# Altium integrated library NSC MiscPower.IntLib: 742 symbols (part 1 of 19)
Pins are listed as number, name and electrical type; pins without a type are passive.

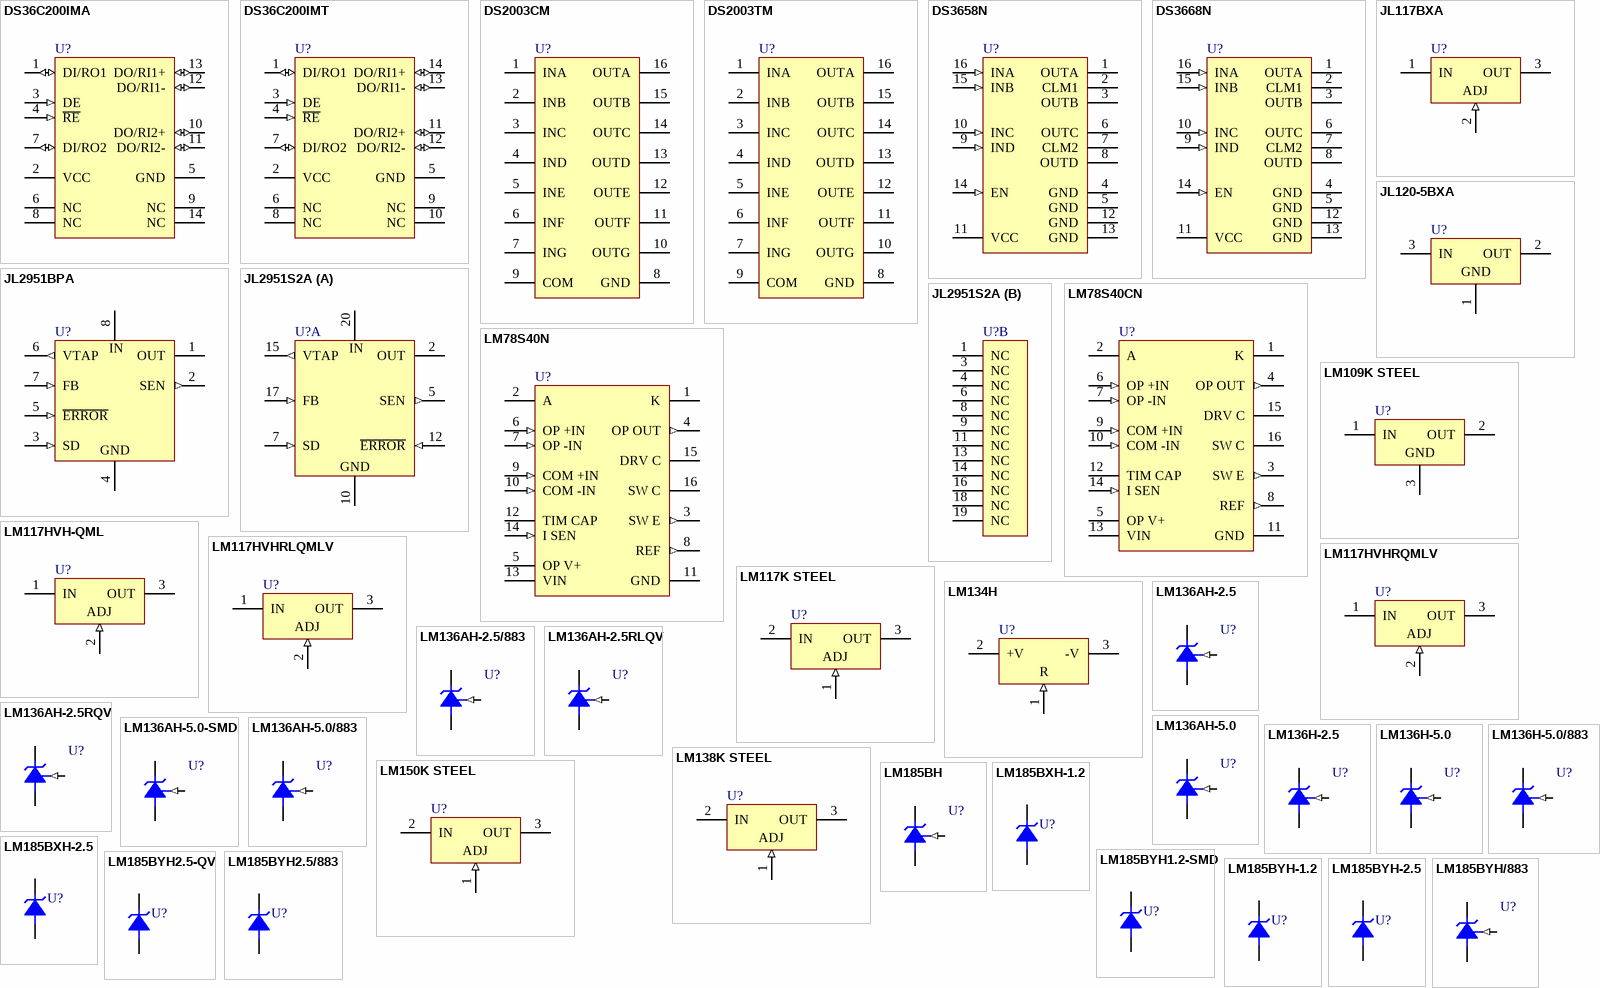
[diagram p0: symbols DS36C200IMA to LM185BYH/883]

## DS36C200IMA
designator U?
Dual High Speed Bi-Directional Differential Transceiver; PartNumber: DS36C200IMA; Manufacturer: National Semiconductor; CompType: MiscPower; PackageTopMarking: NSUZXYTT*DS36C200*IMA; FirstPublished: 4-Dec-2008; DatasheetVersion: Feb-2005; PackageVersion: revJ, Jan-1996; PackageReference: M14A; Publisher: Altium Limited; PackageDescription: Molded Package S.O., .150in Wide, 14 Lead; RoHS: Y; PinCount: 14; DigiKeyPartNumber: DS36C200IMA-ND; Code_JEDEC: MS-012AB; Code_IPC: SOIC127P600-14; ComponentLink1Description: DS36C200I Datasheet; ComponentLink1URL: http://www.national.com/ds/DS/DS36C200I.pdf; ComponentLink2Description: DS36C200I Web Page; ComponentLink2URL: http://www.national.com/pf/DS/DS36C200I.html; ComponentLink3Description: M14A Package Page; ComponentLink3URL: http://www.national.com/packaging/folders/m14a.html
footprint M14A_N (SOIC, 14-Leads, Body 8.6x3.9mm, Pitch 1.27mm, IPC Medium Density)
footprint M14A_L (SOIC, 14-Leads, Body 8.6x3.9mm, Pitch 1.27mm, IPC High Density)
footprint M14A_M (SOIC, 14-Leads, Body 8.6x3.9mm, Pitch 1.27mm, IPC Low Density)
pins: 1 DI/RO1 (io), 2 VCC (power), 3 DE (in), 4 ~{RE} (in), 5 GND (power), 6 NC, 7 DI/RO2 (io), 8 NC, 9 NC, 10 DO/RI2+ (io), 11 DO/RI2- (io), 12 DO/RI1- (io), 13 DO/RI1+ (io), 14 NC

## DS36C200IMT
designator U?
Dual High Speed Bi-Directional Differential Transceiver; PartNumber: DS36C200IMT; Manufacturer: National Semiconductor; CompType: MiscPower; PackageTopMarking: NSZXYTT*DS36C2*00IM; FirstPublished: 4-Dec-2008; DatasheetVersion: Feb-2005; PackageVersion: revD, Jun-2003; PackageReference: MTC14; Publisher: Altium Limited; PackageDescription: Molded TSSOP, JEDEC, 5 x 4.4 x 0.9mm Body, 14 Lead, 0.65mm Pitch; RoHS: Y; PinCount: 14; DigiKeyPartNumber: DS36C200IMT-ND; Code_JEDEC: MO-153-AB-1; ComponentLink1Description: DS36C200I Datasheet; ComponentLink1URL: http://www.national.com/ds/DS/DS36C200I.pdf; ComponentLink2Description: DS36C200I Web Page; ComponentLink2URL: http://www.national.com/pf/DS/DS36C200I.html; ComponentLink3Description: MTC14 Package Page; ComponentLink3URL: http://www.national.com/packaging/folders/mtc14.html
footprint MTC14_N (TSOP, 14-Leads, Body 5x4.4mm, Pitch 0.65mm, IPC Medium Density)
footprint MTC14_L (TSOP, 14-Leads, Body 5x4.4mm, Pitch 0.65mm, IPC High Density)
footprint MTC14_M (TSOP, 14-Leads, Body 5x4.4mm, Pitch 0.65mm, IPC Low Density)
pins: 1 DI/RO1 (io), 2 VCC (power), 3 DE (in), 4 ~{RE} (in), 5 GND (power), 6 NC, 7 DI/RO2 (io), 8 NC, 9 NC, 10 NC, 11 DO/RI2+ (io), 12 DO/RI2- (io), 13 DO/RI1- (io), 14 DO/RI1+ (io)

## DS2003CM
designator U?
High Current/Voltage Darlington Driver; PartNumber: DS2003CM; Manufacturer: National Semiconductor; CompType: MiscPower; PackageTopMarking: NSUZXYTT*DS2003CM; PowerWise: N; FirstPublished: 4-Dec-2008; DatasheetVersion: Mar-2005; PackageVersion: revJ, Aug-1995; PackageReference: M16A; Publisher: Altium Limited; PackageDescription: Molded Package, SO, .150in Wide, 16 Lead; RoHS: O; PinCount: 16; DigiKeyPartNumber: DS2003CM-ND; Code_JEDEC: MS-012-AC; Code_IPC: SOIC127P600-16; ComponentLink1Description: DS2003 Datasheet; ComponentLink1URL: http://www.national.com/ds/DS/DS2003.pdf; ComponentLink2Description: DS2003 Web Page; ComponentLink2URL: http://www.national.com/pf/DS/DS2003.html; ComponentLink3Description: M16A Package Page; ComponentLink3URL: http://www.national.com/packaging/folders/m16a.html
footprint M16A_N (SOIC, 16-Leads, Body 9.9x3.9mm, Pitch 1.27mm, IPC Medium Density)
footprint M16A_L (SOIC, 16-Leads, Body 9.9x3.9mm, Pitch 1.27mm, IPC High Density)
footprint M16A_M (SOIC, 16-Leads, Body 9.9x3.9mm, Pitch 1.27mm, IPC Low Density)
pins: 1 INA, 2 INB, 3 INC, 4 IND, 5 INE, 6 INF, 7 ING, 8 GND (power), 9 COM, 10 OUTG, 11 OUTF, 12 OUTE, 13 OUTD, 14 OUTC, 15 OUTB, 16 OUTA

## DS2003TM
designator U?
High Current/Voltage Darlington Driver; PartNumber: DS2003TM; Manufacturer: National Semiconductor; CompType: MiscPower; PackageTopMarking: NSUZXYTT*DS2003TM; PowerWise: N; FirstPublished: 4-Dec-2008; DatasheetVersion: Mar-2005; PackageVersion: revJ, Aug-1995; PackageReference: M16A; Publisher: Altium Limited; PackageDescription: Molded Package, SO, .150in Wide, 16 Lead; RoHS: O; PinCount: 16; DigiKeyPartNumber: DS2003TM-ND; Code_JEDEC: MS-012-AC; Code_IPC: SOIC127P600-16; ComponentLink1Description: DS2003 Datasheet; ComponentLink1URL: http://www.national.com/ds/DS/DS2003.pdf; ComponentLink2Description: DS2003 Web Page; ComponentLink2URL: http://www.national.com/pf/DS/DS2003.html; ComponentLink3Description: M16A Package Page; ComponentLink3URL: http://www.national.com/packaging/folders/m16a.html
footprint M16A_N (SOIC, 16-Leads, Body 9.9x3.9mm, Pitch 1.27mm, IPC Medium Density)
footprint M16A_L (SOIC, 16-Leads, Body 9.9x3.9mm, Pitch 1.27mm, IPC High Density)
footprint M16A_M (SOIC, 16-Leads, Body 9.9x3.9mm, Pitch 1.27mm, IPC Low Density)
pins: 1 INA, 2 INB, 3 INC, 4 IND, 5 INE, 6 INF, 7 ING, 8 GND (power), 9 COM, 10 OUTG, 11 OUTF, 12 OUTE, 13 OUTD, 14 OUTC, 15 OUTB, 16 OUTA

## DS3658N
designator U?
Quad High Current Peripheral Driver; PartNumber: DS3658N; Manufacturer: National Semiconductor; CompType: MiscPower; PackageTopMarking: NSUZXYYTT*DS3658N; PowerWise: N; FirstPublished: 4-Dec-2008; DatasheetVersion: Nov-2001; PackageVersion: revG, May-2006; PackageReference: N16E; Publisher: Altium Limited; PackageDescription: MDIP, .750 x .250 x .130in, 16 Lead, .100in Pitch; RoHS: O; PinCount: 16; DigiKeyPartNumber: DS3658N-ND; Code_JEDEC: MS-001-BB; ComponentLink1Description: DS3658 Datasheet; ComponentLink1URL: http://www.national.com/ds/DS/DS3658.pdf; ComponentLink2Description: DS3658 Web Page; ComponentLink2URL: http://www.national.com/pf/DS/DS3658.html; ComponentLink3Description: N16E Package Page; ComponentLink3URL: http://www.national.com/packaging/folders/n16e.html
footprint N16E (DIP, 16-Leads, Row Spacing 7.62mm, Pitch 2.54mm, Body 19.3x6.35mm)
pins: 1 OUTA (oc), 2 CLM1, 3 OUTB (oc), 4 GND (power), 5 GND (power), 6 OUTC (oc), 7 CLM2, 8 OUTD (oc), 9 IND (in), 10 INC (in), 11 VCC (power), 12 GND (power), 13 GND (power), 14 EN (in), 15 INB (in), 16 INA (in)

## DS3668N
designator U?
Quad Fault Protected Peripheral Driver; PartNumber: DS3668N; Manufacturer: National Semiconductor; CompType: MiscPower; PackageTopMarking: NSUZXYYTT*DS3668N; PowerWise: N; FirstPublished: 4-Dec-2008; DatasheetVersion: Nov-2001; PackageVersion: revG, May-2006; PackageReference: N16E; Publisher: Altium Limited; PackageDescription: MDIP, .750 x .250 x .130in, 16 Lead, .100in Pitch; RoHS: O; PinCount: 16; DigiKeyPartNumber: DS3668N-ND; Code_JEDEC: MS-001-BB; ComponentLink1Description: DS3668 Datasheet; ComponentLink1URL: http://www.national.com/ds/DS/DS3668.pdf; ComponentLink2Description: DS3668 Web Page; ComponentLink2URL: http://www.national.com/pf/DS/DS3668.html; ComponentLink3Description: N16E Package Page; ComponentLink3URL: http://www.national.com/packaging/folders/n16e.html
footprint N16E (DIP, 16-Leads, Row Spacing 7.62mm, Pitch 2.54mm, Body 19.3x6.35mm)
pins: 1 OUTA (oc), 2 CLM1, 3 OUTB (oc), 4 GND (power), 5 GND (power), 6 OUTC (oc), 7 CLM2, 8 OUTD (oc), 9 IND (in), 10 INC (in), 11 VCC (power), 12 GND (power), 13 GND (power), 14 EN (in), 15 INB (in), 16 INA (in)

## JL117BXA
designator U?
3-Terminal Adjustable Regulator; PartNumber: JL117BXA; Manufacturer: National Semiconductor; CompType: MiscPower; PackageTopMarking: NS ZSSXXYYA 27014 Q*JM38510/11703BXA; PowerWise: N; FirstPublished: 4-Dec-2008; DatasheetVersion: Apr-2007; PackageVersion: revD, Feb-1995; PackageReference: H03A; Publisher: Altium Limited; PackageDescription: Metal Can, TO-39, 3 Lead, .200in Dia, P.C.; RoHS: N; PinCount: 3; Code_JEDEC: TO-39; ComponentLink1Description: LM117 Datasheet; ComponentLink1URL: http://www.national.com/ds/LM/LM117.pdf; ComponentLink2Description: LM117 Web Page; ComponentLink2URL: http://www.national.com/pf/LM/LM117.html; ComponentLink3Description: H03A Package Page; ComponentLink3URL: http://www.national.com/packaging/folders/h03a.html
footprint H03A (Can; 3 Leads; Pin Circle Dia. 5.08 mm; Lead Dia. 0.48 mm (max))
pins: 1 IN (power), 2 ADJ (in), 3 OUT (power)

## JL120-5BXA
designator U?
Series 3-Terminal Negative Regulators; PartNumber: JL120-5BXA; Manufacturer: National Semiconductor; CompType: MiscPower; PackageTopMarking: NS ZSSXXYYA 27014 Q*JM38510/11501BXA; FirstPublished: 4-Dec-2008; DatasheetVersion: Nov-2007; PackageVersion: revD, Feb-1995; PackageReference: H03A; Publisher: Altium Limited; PackageDescription: Metal Can, TO-39, 3 Lead, .200in Dia, P.C.; RoHS: N; PinCount: 3; Code_JEDEC: TO-39; ComponentLink1Description: LM120 Datasheet; ComponentLink1URL: http://www.national.com/ds/LM/LM120.pdf; ComponentLink2Description: LM120 Web Page; ComponentLink2URL: http://www.national.com/pf/LM/LM120.html; ComponentLink3Description: H03A Package Page; ComponentLink3URL: http://www.national.com/packaging/folders/h03a.html
footprint H03A (Can; 3 Leads; Pin Circle Dia. 5.08 mm; Lead Dia. 0.48 mm (max))
pins: 1 GND (power), 2 OUT (power), 3 IN (power)

## JL2951BPA
designator U?
Adjustable Micropower Voltage Regulator; PartNumber: JL2951BPA; Manufacturer: National Semiconductor; CompType: MiscPower; PackageTopMarking: NS 5962-*3870501BPA*27014 Q*ZSSXXYYA; PowerWise: N; FirstPublished: 4-Dec-2008; DatasheetVersion: May-2005; PackageVersion: revM, Jul-2002; PackageReference: J08A; Publisher: Altium Limited; PackageDescription: Cerdip, .400 x .310in Body, 8 Lead, .300in Centers, .100in Pitch; RoHS: N; PinCount: 8; ComponentLink1Description: LP2951 Datasheet; ComponentLink1URL: http://www.national.com/ds/LP/LP2951.pdf; ComponentLink2Description: LP2951 Web Page; ComponentLink2URL: http://www.national.com/pf/LP/LP2951.html; ComponentLink3Description: J08A Package Page; ComponentLink3URL: http://www.national.com/packaging/folders/j08a.html
footprint J08A (DIP, 8-Leads, Row Spacing 7.62mm, Pitch 2.54mm, Body 9.78x6.73mm)
pins: 1 OUT (power), 2 SEN (out), 3 SD (in), 4 GND (power), 5 ~{ERROR} (in), 6 VTAP (out), 7 FB (in), 8 IN (power)

## JL2951S2A
designator U?
Adjustable Micropower Voltage Regulator; PartNumber: JL2951S2A; Manufacturer: National Semiconductor; CompType: MiscPower; PackageTopMarking: NSZSSXXYYA*27014 Q*5962-*3870501S2A; FirstPublished: 4-Dec-2008; DatasheetVersion: Jan-1997; PackageVersion: revF, May-2004; PackageReference: E20A; Publisher: Altium Limited; PackageDescription: Leadless Chip Carrier, Type C, 20 Terminal; RoHS: N; PinCount: 20; Code_JEDEC: MS-004-CB; ComponentLink1Description: LP2951 Datasheet; ComponentLink1URL: http://www.national.com/mds/LP/MJLP2951-X.pdf; ComponentLink2Description: LP2951 Web Page; ComponentLink2URL: http://www.national.com/pf/LP/LP2951.html; ComponentLink3Description: E20A Package Page; ComponentLink3URL: http://www.national.com/packaging/folders/e20a.html
footprint E20A_N (Leadless Chip Carrier, 20-Leads, Body 8.9x8.9mm, Pitch 1.27mm, IPC Medium Density)
footprint E20A_L (Leadless Chip Carrier, 20-Leads, Body 8.9x8.9mm, Pitch 1.27mm, IPC High Density)
footprint E20A_M (Leadless Chip Carrier, 20-Leads, Body 8.9x8.9mm, Pitch 1.27mm, IPC Low Density)
part A pins: 2 OUT (power), 5 SEN (out), 7 SD (in), 10 GND (power), 12 ~{ERROR} (in), 15 VTAP (out), 17 FB (in), 20 IN (power)
part B pins: 1 NC, 3 NC, 4 NC, 6 NC, 8 NC, 9 NC, 11 NC, 13 NC, 14 NC, 16 NC, 18 NC, 19 NC

## LM78S40CN
designator U?
Universal Switching Regulator Subsystem; PartNumber: LM78S40CN; Manufacturer: National Semiconductor; CompType: MiscPower; PackageTopMarking: NSUZXYYTT*LM78S40CN; PowerWise: N; FirstPublished: 4-Dec-2008; DatasheetVersion: Apr-1998; PackageVersion: revG, May-2006; PackageReference: N16E; Publisher: Altium Limited; PackageDescription: MDIP, .750 x .250 x .130in, 16 Lead, .100in Pitch; RoHS: O; PinCount: 16; DigiKeyPartNumber: LM78S40CN-ND; Code_JEDEC: MS-001-BB; ComponentLink1Description: LM78S40 Datasheet; ComponentLink1URL: http://www.national.com/ds/LM/LM78S40.pdf; ComponentLink2Description: LM78S40 Web Page; ComponentLink2URL: http://www.national.com/pf/LM/LM78S40.html; ComponentLink3Description: N16E Package Page; ComponentLink3URL: http://www.national.com/packaging/folders/n16e.html
footprint N16E (DIP, 16-Leads, Row Spacing 7.62mm, Pitch 2.54mm, Body 19.3x6.35mm)
pins: 1 K, 2 A, 3 SW E (out), 4 OP OUT (out), 5 OP V+ (power), 6 OP +IN (in), 7 OP -IN (in), 8 REF (out), 9 COM +IN (in), 10 COM -IN (in), 11 GND (power), 12 TIM CAP, 13 VIN (power), 14 I SEN (in), 15 DRV C (oc), 16 SW C (oc)

## LM78S40N
designator U?
Universal Switching Regulator Subsystem; PartNumber: LM78S40N; Manufacturer: National Semiconductor; CompType: MiscPower; PackageTopMarking: NSUZXYYTT*LM78S40N; PowerWise: N; FirstPublished: 4-Dec-2008; DatasheetVersion: Apr-1998; PackageVersion: revG, May-2006; PackageReference: N16E; Publisher: Altium Limited; PackageDescription: MDIP, .750 x .250 x .130in, 16 Lead, .100in Pitch; RoHS: O; PinCount: 16; DigiKeyPartNumber: LM78S40N-ND; Code_JEDEC: MS-001-BB; ComponentLink1Description: LM78S40 Datasheet; ComponentLink1URL: http://www.national.com/ds/LM/LM78S40.pdf; ComponentLink2Description: LM78S40 Web Page; ComponentLink2URL: http://www.national.com/pf/LM/LM78S40.html; ComponentLink3Description: N16E Package Page; ComponentLink3URL: http://www.national.com/packaging/folders/n16e.html
footprint N16E (DIP, 16-Leads, Row Spacing 7.62mm, Pitch 2.54mm, Body 19.3x6.35mm)
pins: 1 K, 2 A, 3 SW E (out), 4 OP OUT (out), 5 OP V+ (power), 6 OP +IN (in), 7 OP -IN (in), 8 REF (out), 9 COM +IN (in), 10 COM -IN (in), 11 GND (power), 12 TIM CAP, 13 VIN (power), 14 I SEN (in), 15 DRV C (oc), 16 SW C (oc)

## LM109K STEEL
designator U?
5-Volt Regulator; PartNumber: LM109K STEEL; Manufacturer: National Semiconductor; CompType: MiscPower; PackageTopMarking: NS*ZXYTTE#*LM109K*STEELP+; PowerWise: N; FirstPublished: 4-Dec-2008; DatasheetVersion: Apr-1998; PackageVersion: revG, Oct-1991; PackageReference: K02A; Publisher: Altium Limited; PackageDescription: Metal Can (KA) TO-3, 2 Lead; RoHS: O; PinCount: 2; ComponentLink1Description: LM109 Datasheet; ComponentLink1URL: http://www.national.com/ds/LM/LM109.pdf; ComponentLink2Description: LM109 Web Page; ComponentLink2URL: http://www.national.com/pf/LM/LM109.html; ComponentLink3Description: K02A Package Page; ComponentLink3URL: http://www.national.com/packaging/folders/k02a.html
footprint K02A (Oval Flange Mount with (2) Offset Leads; Pin Spacing 10.93 mm; Lead Dia. 1.09 mm (max))
pins: 1 IN (power), 2 OUT (power), 3 GND (power)

## LM117HVH-QML
designator U?
3-Terminal Adjustable Regulator; PartNumber: LM117HVH-QML; Manufacturer: National Semiconductor; CompType: MiscPower; PackageTopMarking: NSZSSXXYYA 5962-07229*01QXA LM117HVH-QML Q; PowerWise: N; FirstPublished: 4-Dec-2008; DatasheetVersion: Apr-2000; PackageVersion: revD, Feb-1995; PackageReference: H03A; Publisher: Altium Limited; PackageDescription: Metal Can, TO-39, 3 Lead, .200in Dia, P.C.; RoHS: N; PinCount: 3; Code_JEDEC: TO-39; ComponentLink1Description: LM117HV Datasheet; ComponentLink1URL: http://www.national.com/ds/LM/LM117HV.pdf; ComponentLink2Description: LM117HV Web Page; ComponentLink2URL: http://www.national.com/pf/LM/LM117HV.html; ComponentLink3Description: H03A Package Page; ComponentLink3URL: http://www.national.com/packaging/folders/h03a.html
footprint H03A (Can; 3 Leads; Pin Circle Dia. 5.08 mm; Lead Dia. 0.48 mm (max))
pins: 1 IN (power), 2 ADJ (in), 3 OUT (power)

## LM117HVHRLQMLV
designator U?
3-Terminal Adjustable Regulator; PartNumber: LM117HVHRLQMLV; Manufacturer: National Semiconductor; CompType: MiscPower; PackageTopMarking: NSZSSXXYYA 5962R07229*61VXA LM117HVHRLQV Q; PowerWise: N; FirstPublished: 4-Dec-2008; DatasheetVersion: Apr-2000; PackageVersion: revD, Feb-1995; PackageReference: H03A; Publisher: Altium Limited; PackageDescription: Metal Can, TO-39, 3 Lead, .200in Dia, P.C.; RoHS: N; PinCount: 3; Code_JEDEC: TO-39; ComponentLink1Description: LM117HV Datasheet; ComponentLink1URL: http://www.national.com/ds/LM/LM117HV.pdf; ComponentLink2Description: LM117HV Web Page; ComponentLink2URL: http://www.national.com/pf/LM/LM117HV.html; ComponentLink3Description: H03A Package Page; ComponentLink3URL: http://www.national.com/packaging/folders/h03a.html
footprint H03A (Can; 3 Leads; Pin Circle Dia. 5.08 mm; Lead Dia. 0.48 mm (max))
pins: 1 IN (power), 2 ADJ (in), 3 OUT (power)

## LM117HVHRQMLV
designator U?
3-Terminal Adjustable Regulator; PartNumber: LM117HVHRQMLV; Manufacturer: National Semiconductor; CompType: MiscPower; PackageTopMarking: NSZSSXXYYA 5962R07229*01VXA LM117HVHRQV Q; PowerWise: N; FirstPublished: 4-Dec-2008; DatasheetVersion: Apr-2000; PackageVersion: revD, Feb-1995; PackageReference: H03A; Publisher: Altium Limited; PackageDescription: Metal Can, TO-39, 3 Lead, .200in Dia, P.C.; RoHS: N; PinCount: 3; Code_JEDEC: TO-39; ComponentLink1Description: LM117HV Datasheet; ComponentLink1URL: http://www.national.com/ds/LM/LM117HV.pdf; ComponentLink2Description: LM117HV Web Page; ComponentLink2URL: http://www.national.com/pf/LM/LM117HV.html; ComponentLink3Description: H03A Package Page; ComponentLink3URL: http://www.national.com/packaging/folders/h03a.html
footprint H03A (Can; 3 Leads; Pin Circle Dia. 5.08 mm; Lead Dia. 0.48 mm (max))
pins: 1 IN (power), 2 ADJ (in), 3 OUT (power)

## LM117K STEEL
designator U?
3-Terminal Adjustable Regulator; PartNumber: LM117K STEEL; Manufacturer: National Semiconductor; CompType: MiscPower; PackageTopMarking: NS*ZXYTTE#*LM117K*STEELP+; PowerWise: N; FirstPublished: 4-Dec-2008; DatasheetVersion: Apr-2007; PackageVersion: revG, Oct-1991; PackageReference: K02A; Publisher: Altium Limited; PackageDescription: Metal Can (KA) TO-3, 2 Lead; RoHS: O; PinCount: 2; DigiKeyPartNumber: LM117K STEEL-ND; ComponentLink1Description: LM117 Datasheet; ComponentLink1URL: http://www.national.com/ds/LM/LM117.pdf; ComponentLink2Description: LM117 Web Page; ComponentLink2URL: http://www.national.com/pf/LM/LM117.html; ComponentLink3Description: K02A Package Page; ComponentLink3URL: http://www.national.com/packaging/folders/k02a.html
footprint K02A (Oval Flange Mount with (2) Offset Leads; Pin Spacing 10.93 mm; Lead Dia. 1.09 mm (max))
pins: 1 ADJ (in), 2 IN (power), 3 OUT (power)

## LM134H
designator U?
3-Terminal Adjustable Current Source; PartNumber: LM134H; Manufacturer: National Semiconductor; CompType: MiscPower; PackageTopMarking: NSZXYTTE# M134H; PowerWise: N; FirstPublished: 4-Dec-2008; DatasheetVersion: Mar-2005; PackageVersion: revF, Apr-2002; PackageReference: H03H; Publisher: Altium Limited; PackageDescription: Metal Can, TO-46, 3 Lead, .100in Dia, P.C.; RoHS: O; PinCount: 3; Code_JEDEC: TO-46; ComponentLink1Description: LM134 Datasheet; ComponentLink1URL: http://www.national.com/ds/LM/LM134.pdf; ComponentLink2Description: LM134 Web Page; ComponentLink2URL: http://www.national.com/pf/LM/LM134.html; ComponentLink3Description: H03H Package Page; ComponentLink3URL: http://www.national.com/packaging/folders/h03h.html
footprint H03H (Can; 3 Leads; Pin Circle Dia. 2.54 mm; Lead Dia. 0.48 mm (max))
pins: 1 R (in), 2 +V, 3 -V

## LM136AH-2.5
designator U?
Voltage Reference Diode; PartNumber: LM136AH-2.5; Manufacturer: National Semiconductor; CompType: MiscPower; PackageTopMarking: NSXYTTE# LM136AH2.5; PowerWise: N; MilaeroCode: 2MC; FirstPublished: 29-May-2009; DatasheetVersion: Feb-2009; PackageVersion: revF, Apr-2002; PackageReference: H03H; Publisher: Altium Limited; PackageDescription: Metal Can, TO-46, 3 Lead, .100in Dia, P.C.; RoHS: O; PinCount: 3; DigiKeyPartNumber: LM136AH-2.5-ND; Code_JEDEC: TO-46; ComponentLink1Description: LM136-2.5 Datasheet; ComponentLink1URL: http://www.national.com/ds/LM/LM136-2.5.pdf; ComponentLink2Description: LM136-2.5 Web Page; ComponentLink2URL: http://www.national.com/pf/LM/LM136-2.5.html; ComponentLink3Description: H03H Package Page; ComponentLink3URL: http://www.national.com/packaging/folders/h03h.html
footprint H03H (Can; 3 Leads; Pin Circle Dia. 2.54 mm; Lead Dia. 0.48 mm (max))
pins: 1 ADJ (in), 2 +V, 3 -V

## LM136AH-2.5/883
designator U?
Voltage Reference Diode; PartNumber: LM136AH-2.5/883; Manufacturer: National Semiconductor; CompType: MiscPower; PackageTopMarking: NSZSSXXYYA LM136AH-2.5 Q; PowerWise: N; MilaeroCode: B88; FirstPublished: 29-May-2009; DatasheetVersion: Feb-2009; PackageVersion: revF, Apr-2002; PackageReference: H03H; Publisher: Altium Limited; PackageDescription: Metal Can, TO-46, 3 Lead, .100in Dia, P.C.; RoHS: N; PinCount: 3; Code_JEDEC: TO-46; ComponentLink1Description: LM136-2.5 Datasheet; ComponentLink1URL: http://www.national.com/ds/LM/LM136-2.5.pdf; ComponentLink2Description: LM136-2.5 Web Page; ComponentLink2URL: http://www.national.com/pf/LM/LM136-2.5.html; ComponentLink3Description: H03H Package Page; ComponentLink3URL: http://www.national.com/packaging/folders/h03h.html
footprint H03H (Can; 3 Leads; Pin Circle Dia. 2.54 mm; Lead Dia. 0.48 mm (max))
pins: 1 ADJ (in), 2 +V, 3 -V

## LM136AH-2.5RLQV
designator U?
Voltage Reference Diode; PartNumber: LM136AH-2.5RLQV; Manufacturer: National Semiconductor; CompType: MiscPower; PackageTopMarking: NSZSSXXYYAR0050102VXA Q; PowerWise: N; MilaeroCode: DXX; FirstPublished: 29-May-2009; DatasheetVersion: Feb-2009; PackageVersion: revF, Apr-2002; PackageReference: H03H; Publisher: Altium Limited; PackageDescription: Metal Can, TO-46, 3 Lead, .100in Dia, P.C.; RoHS: N; PinCount: 3; Code_JEDEC: TO-46; ComponentLink1Description: LM136-2.5 Datasheet; ComponentLink1URL: http://www.national.com/ds/LM/LM136-2.5.pdf; ComponentLink2Description: LM136-2.5 Web Page; ComponentLink2URL: http://www.national.com/pf/LM/LM136-2.5.html; ComponentLink3Description: H03H Package Page; ComponentLink3URL: http://www.national.com/packaging/folders/h03h.html
footprint H03H (Can; 3 Leads; Pin Circle Dia. 2.54 mm; Lead Dia. 0.48 mm (max))
pins: 1 ADJ (in), 2 +V, 3 -V

## LM136AH-2.5RQV
designator U?
Voltage Reference Diode; PartNumber: LM136AH-2.5RQV; Manufacturer: National Semiconductor; CompType: MiscPower; PackageTopMarking: NSZSSXXYYAR0050101VXA Q; PowerWise: N; MilaeroCode: EXX; FirstPublished: 29-May-2009; DatasheetVersion: Feb-2009; PackageVersion: revF, Apr-2002; PackageReference: H03H; Publisher: Altium Limited; PackageDescription: Metal Can, TO-46, 3 Lead, .100in Dia, P.C.; RoHS: N; PinCount: 3; Code_JEDEC: TO-46; ComponentLink1Description: LM136-2.5 Datasheet; ComponentLink1URL: http://www.national.com/ds/LM/LM136-2.5.pdf; ComponentLink2Description: LM136-2.5 Web Page; ComponentLink2URL: http://www.national.com/pf/LM/LM136-2.5.html; ComponentLink3Description: H03H Package Page; ComponentLink3URL: http://www.national.com/packaging/folders/h03h.html
footprint H03H (Can; 3 Leads; Pin Circle Dia. 2.54 mm; Lead Dia. 0.48 mm (max))
pins: 1 ADJ (in), 2 +V, 3 -V

## LM136AH-5.0
designator U?
5.0V Reference Diode; PartNumber: LM136AH-5.0; Manufacturer: National Semiconductor; CompType: MiscPower; PackageTopMarking: NSXYTTE# LM136AH5.0; PowerWise: N; MilaeroCode: 2MC; FirstPublished: 29-May-2009; DatasheetVersion: Feb-2009; PackageVersion: revF, Apr-2002; PackageReference: H03H; Publisher: Altium Limited; PackageDescription: Metal Can, TO-46, 3 Lead, .100in Dia, P.C.; RoHS: O; PinCount: 3; Code_JEDEC: TO-46; ComponentLink1Description: LM136-5.0 Datasheet; ComponentLink1URL: http://www.national.com/ds/LM/LM136-5.0.pdf; ComponentLink2Description: LM136-5.0 Web Page; ComponentLink2URL: http://www.national.com/pf/LM/LM136-5.0.html; ComponentLink3Description: H03H Package Page; ComponentLink3URL: http://www.national.com/packaging/folders/h03h.html
footprint H03H (Can; 3 Leads; Pin Circle Dia. 2.54 mm; Lead Dia. 0.48 mm (max))
pins: 1 ADJ (in), 2 +V, 3 -V

## LM136AH-5.0-SMD
designator U?
5.0V Reference Diode; PartNumber: LM136AH-5.0-SMD; Manufacturer: National Semiconductor; CompType: MiscPower; PackageTopMarking: NSZSSXXYYA 8418002XA Q; PowerWise: N; MilaeroCode: B88; FirstPublished: 29-May-2009; DatasheetVersion: Apr-2008; PackageVersion: revF, Apr-2002; PackageReference: H03H; Publisher: Altium Limited; PackageDescription: Metal Can, TO-46, 3 Lead, .100in Dia, P.C.; RoHS: N; PinCount: 3; Code_JEDEC: TO-46; ComponentLink1Description: LM136-5.0 Datasheet; ComponentLink1URL: http://www.national.com/ds/LM/LM136-5.0QML.pdf; ComponentLink2Description: LM136-5.0 Web Page; ComponentLink2URL: http://www.national.com/pf/LM/LM136-5.0.html; ComponentLink3Description: H03H Package Page; ComponentLink3URL: http://www.national.com/packaging/folders/h03h.html
footprint H03H (Can; 3 Leads; Pin Circle Dia. 2.54 mm; Lead Dia. 0.48 mm (max))
pins: 1 ADJ (in), 2 +V, 3 -V

## LM136AH-5.0/883
designator U?
5.0V Reference Diode; PartNumber: LM136AH-5.0/883; Manufacturer: National Semiconductor; CompType: MiscPower; PackageTopMarking: NSZSSXXYYA LM136AH-5.0 Q; PowerWise: N; MilaeroCode: B88; FirstPublished: 29-May-2009; DatasheetVersion: Apr-2008; PackageVersion: revF, Apr-2002; PackageReference: H03H; Publisher: Altium Limited; PackageDescription: Metal Can, TO-46, 3 Lead, .100in Dia, P.C.; RoHS: N; PinCount: 3; Code_JEDEC: TO-46; ComponentLink1Description: LM136-5.0 Datasheet; ComponentLink1URL: http://www.national.com/ds/LM/LM136-5.0QML.pdf; ComponentLink2Description: LM136-5.0 Web Page; ComponentLink2URL: http://www.national.com/pf/LM/LM136-5.0.html; ComponentLink3Description: H03H Package Page; ComponentLink3URL: http://www.national.com/packaging/folders/h03h.html
footprint H03H (Can; 3 Leads; Pin Circle Dia. 2.54 mm; Lead Dia. 0.48 mm (max))
pins: 1 ADJ (in), 2 +V, 3 -V

## LM136H-2.5
designator U?
Voltage Reference Diode; PartNumber: LM136H-2.5; Manufacturer: National Semiconductor; CompType: MiscPower; PackageTopMarking: NSXYTTE# LM136H2.5; PowerWise: N; MilaeroCode: 2MC; FirstPublished: 29-May-2009; DatasheetVersion: Feb-2009; PackageVersion: revF, Apr-2002; PackageReference: H03H; Publisher: Altium Limited; PackageDescription: Metal Can, TO-46, 3 Lead, .100in Dia, P.C.; RoHS: O; PinCount: 3; DigiKeyPartNumber: LM136H-2.5-ND; Code_JEDEC: TO-46; ComponentLink1Description: LM136-2.5 Datasheet; ComponentLink1URL: http://www.national.com/ds/LM/LM136-2.5.pdf; ComponentLink2Description: LM136-2.5 Web Page; ComponentLink2URL: http://www.national.com/pf/LM/LM136-2.5.html; ComponentLink3Description: H03H Package Page; ComponentLink3URL: http://www.national.com/packaging/folders/h03h.html
footprint H03H (Can; 3 Leads; Pin Circle Dia. 2.54 mm; Lead Dia. 0.48 mm (max))
pins: 1 ADJ (in), 2 +V, 3 -V

## LM136H-5.0
designator U?
5.0V Reference Diode; PartNumber: LM136H-5.0; Manufacturer: National Semiconductor; CompType: MiscPower; PackageTopMarking: NSXYTTE# LM136H5.0; PowerWise: N; MilaeroCode: 2MC; FirstPublished: 29-May-2009; DatasheetVersion: Feb-2009; PackageVersion: revF, Apr-2002; PackageReference: H03H; Publisher: Altium Limited; PackageDescription: Metal Can, TO-46, 3 Lead, .100in Dia, P.C.; RoHS: O; PinCount: 3; DigiKeyPartNumber: LM136H-5.0-ND; Code_JEDEC: TO-46; ComponentLink1Description: LM136-5.0 Datasheet; ComponentLink1URL: http://www.national.com/ds/LM/LM136-5.0.pdf; ComponentLink2Description: LM136-5.0 Web Page; ComponentLink2URL: http://www.national.com/pf/LM/LM136-5.0.html; ComponentLink3Description: H03H Package Page; ComponentLink3URL: http://www.national.com/packaging/folders/h03h.html
footprint H03H (Can; 3 Leads; Pin Circle Dia. 2.54 mm; Lead Dia. 0.48 mm (max))
pins: 1 ADJ (in), 2 +V, 3 -V

## LM136H-5.0/883
designator U?
5.0V Reference Diode; PartNumber: LM136H-5.0/883; Manufacturer: National Semiconductor; CompType: MiscPower; PackageTopMarking: NSZSSXXYYA LM136H-5.0 Q; PowerWise: N; MilaeroCode: B88; FirstPublished: 29-May-2009; DatasheetVersion: Apr-2008; PackageVersion: revF, Apr-2002; PackageReference: H03H; Publisher: Altium Limited; PackageDescription: Metal Can, TO-46, 3 Lead, .100in Dia, P.C.; RoHS: N; PinCount: 3; Code_JEDEC: TO-46; ComponentLink1Description: LM136-5.0 Datasheet; ComponentLink1URL: http://www.national.com/ds/LM/LM136-5.0QML.pdf; ComponentLink2Description: LM136-5.0 Web Page; ComponentLink2URL: http://www.national.com/pf/LM/LM136-5.0.html; ComponentLink3Description: H03H Package Page; ComponentLink3URL: http://www.national.com/packaging/folders/h03h.html
footprint H03H (Can; 3 Leads; Pin Circle Dia. 2.54 mm; Lead Dia. 0.48 mm (max))
pins: 1 ADJ (in), 2 +V, 3 -V

## LM138K STEEL
designator U?
5 Amp Adjustable Regulator; PartNumber: LM138K STEEL; Manufacturer: National Semiconductor; CompType: MiscPower; PackageTopMarking: NS*ZXYTTE#*LM138K*STEELP+; PowerWise: N; FirstPublished: 4-Dec-2008; DatasheetVersion: May-1998; PackageVersion: revG, Oct-1991; PackageReference: K02A; Publisher: Altium Limited; PackageDescription: Metal Can (KA) TO-3, 2 Lead; RoHS: O; PinCount: 2; ComponentLink1Description: LM138 Datasheet; ComponentLink1URL: http://www.national.com/ds/LM/LM138.pdf; ComponentLink2Description: LM138 Web Page; ComponentLink2URL: http://www.national.com/pf/LM/LM138.html; ComponentLink3Description: K02A Package Page; ComponentLink3URL: http://www.national.com/packaging/folders/k02a.html
footprint K02A (Oval Flange Mount with (2) Offset Leads; Pin Spacing 10.93 mm; Lead Dia. 1.09 mm (max))
pins: 1 ADJ (in), 2 IN (power), 3 OUT (power)

## LM150K STEEL
designator U?
3-Amp Adjustable Regulator; PartNumber: LM150K STEEL; Manufacturer: National Semiconductor; CompType: MiscPower; PackageTopMarking: NS*ZXYTTE#*LM150K*STEELP+; FirstPublished: 4-Dec-2008; DatasheetVersion: May-1998; PackageVersion: revG, Oct-1991; PackageReference: K02A; Publisher: Altium Limited; PackageDescription: Metal Can (KA) TO-3, 2 Lead; RoHS: O; PinCount: 2; DigiKeyPartNumber: LM150K STEEL-ND; ComponentLink1Description: LM150 Datasheet; ComponentLink1URL: http://www.national.com/ds/LM/LM150.pdf; ComponentLink2Description: LM150 Web Page; ComponentLink2URL: http://www.national.com/pf/LM/LM150.html; ComponentLink3Description: K02A Package Page; ComponentLink3URL: http://www.national.com/packaging/folders/k02a.html
footprint K02A (Oval Flange Mount with (2) Offset Leads; Pin Spacing 10.93 mm; Lead Dia. 1.09 mm (max))
pins: 1 ADJ (in), 2 IN (power), 3 OUT (power)

## LM185BH
designator U?
Adjustable Micropower Voltage Reference; PartNumber: LM185BH; Manufacturer: National Semiconductor; CompType: MiscPower; PackageTopMarking: NSXYTTE# LM185BH; PowerWise: N; FirstPublished: 4-Dec-2008; DatasheetVersion: Jan-2008; PackageVersion: revF, Apr-2002; PackageReference: H03H; Publisher: Altium Limited; PackageDescription: Metal Can, TO-46, 3 Lead, .100in Dia, P.C.; RoHS: O; PinCount: 3; DigiKeyPartNumber: LM185BH-ND; Code_JEDEC: TO-46; ComponentLink1Description: LM185-ADJ Datasheet; ComponentLink1URL: http://www.national.com/ds.cgi/LM/LM185-ADJ.pdf; ComponentLink2Description: LM185-ADJ Web Page; ComponentLink2URL: http://www.national.com/pf/LM/LM185-ADJ.html; ComponentLink3Description: H03H Package Page; ComponentLink3URL: http://www.national.com/packaging/folders/h03h.html
footprint H03H (Can; 3 Leads; Pin Circle Dia. 2.54 mm; Lead Dia. 0.48 mm (max))
pins: 1 FB (in), 2 +V, 3 -V

## LM185BXH-1.2
designator U?
Micropower Voltage Reference Diode; PartNumber: LM185BXH-1.2; Manufacturer: National Semiconductor; CompType: MiscPower; PackageTopMarking: NSXYTTE# LM185BXH1.2; FirstPublished: 4-Dec-2008; DatasheetVersion: Jan-2008; PackageVersion: revF, Apr-2002; PackageReference: H02A; Publisher: Altium Limited; PackageDescription: Metal Can, TO-46, 2 Lead, .100in Dia, P.C.; RoHS: O; PinCount: 2; Code_JEDEC: TO-46; ComponentLink1Description: LM185-1.2 Datasheet; ComponentLink1URL: http://www.national.com/ds.cgi/LM/LM185-1.2.pdf; ComponentLink2Description: LM185-1.2 Web Page; ComponentLink2URL: http://www.national.com/pf/LM/LM185-1.2.html; ComponentLink3Description: H02A Package Page; ComponentLink3URL: http://www.national.com/packaging/folders/h02a.html
footprint H02A (Can; 2 Leads; Pin Circle Dia. 2.54 mm; Lead Dia. 0.48 mm (max))
pins: 1 V+ (power), 2 V- (power)

## LM185BXH-2.5
designator U?
Micropower Voltage Reference Diode; PartNumber: LM185BXH-2.5; Manufacturer: National Semiconductor; CompType: MiscPower; PackageTopMarking: NSXYTTE# LM185BXH2.5; PowerWise: N; FirstPublished: 4-Dec-2008; DatasheetVersion: Jan-2008; PackageVersion: revF, Apr-2002; PackageReference: H02A; Publisher: Altium Limited; PackageDescription: Metal Can, TO-46, 2 Lead, .100in Dia, P.C.; RoHS: N; PinCount: 2; Code_JEDEC: TO-46; ComponentLink1Description: LM185-2.5 Datasheet; ComponentLink1URL: http://www.national.com/ds/LM/LM185-2.5.pdf; ComponentLink2Description: LM185-2.5 Web Page; ComponentLink2URL: http://www.national.com/pf/LM/LM185-2.5.html; ComponentLink3Description: H02A Package Page; ComponentLink3URL: http://www.national.com/packaging/folders/h02a.html
footprint H02A (Can; 2 Leads; Pin Circle Dia. 2.54 mm; Lead Dia. 0.48 mm (max))
pins: 1 V+ (power), 2 V- (power)

## LM185BYH1.2-SMD
designator U?
Micropower Voltage Reference Diode; PartNumber: LM185BYH1.2-SMD; Manufacturer: National Semiconductor; CompType: MiscPower; PackageTopMarking: NSZSSXXYYA 8759405XA Q; PowerWise: N; FirstPublished: 4-Dec-2008; DatasheetVersion: Jan-2008; PackageVersion: revF, Apr-2002; PackageReference: H02A; Publisher: Altium Limited; PackageDescription: Metal Can, TO-46, 2 Lead, .100in Dia, P.C.; RoHS: N; PinCount: 2; Code_JEDEC: TO-46; ComponentLink1Description: LM185-1.2 Datasheet; ComponentLink1URL: http://www.national.com/ds/LM/LM185-1.2.pdf; ComponentLink2Description: LM185-1.2 Web Page; ComponentLink2URL: http://www.national.com/pf/LM/LM185-1.2.html; ComponentLink3Description: H02A Package Page; ComponentLink3URL: http://www.national.com/packaging/folders/h02a.html
footprint H02A (Can; 2 Leads; Pin Circle Dia. 2.54 mm; Lead Dia. 0.48 mm (max))
pins: 1 V+ (power), 2 V- (power)

## LM185BYH2.5-QV
designator U?
Micropower Voltage Reference Diode; PartNumber: LM185BYH2.5-QV; Manufacturer: National Semiconductor; CompType: MiscPower; PackageTopMarking: NSZSSXXYYA 8759406VXA Q; PowerWise: N; FirstPublished: 4-Dec-2008; DatasheetVersion: Jan-2008; PackageVersion: revF, Apr-2002; PackageReference: H02A; Publisher: Altium Limited; PackageDescription: Metal Can, TO-46, 2 Lead, .100in Dia, P.C.; RoHS: N; PinCount: 2; Code_JEDEC: TO-46; ComponentLink1Description: LM185-2.5 Datasheet; ComponentLink1URL: http://www.national.com/ds/LM/LM185-2.5.pdf; ComponentLink2Description: LM185-2.5 Web Page; ComponentLink2URL: http://www.national.com/pf/LM/LM185-2.5.html; ComponentLink3Description: H02A Package Page; ComponentLink3URL: http://www.national.com/packaging/folders/h02a.html
footprint H02A (Can; 2 Leads; Pin Circle Dia. 2.54 mm; Lead Dia. 0.48 mm (max))
pins: 1 V+ (power), 2 V- (power)

## LM185BYH2.5/883
designator U?
Micropower Voltage Reference Diode; PartNumber: LM185BYH2.5/883; Manufacturer: National Semiconductor; CompType: MiscPower; PackageTopMarking: NSZSSXXYYA LM185BYH2.5 Q; PowerWise: N; FirstPublished: 4-Dec-2008; DatasheetVersion: Jan-2008; PackageVersion: revF, Apr-2002; PackageReference: H02A; Publisher: Altium Limited; PackageDescription: Metal Can, TO-46, 2 Lead, .100in Dia, P.C.; RoHS: N; PinCount: 2; Code_JEDEC: TO-46; ComponentLink1Description: LM185-2.5 Datasheet; ComponentLink1URL: http://www.national.com/ds/LM/LM185-2.5.pdf; ComponentLink2Description: LM185-2.5 Web Page; ComponentLink2URL: http://www.national.com/pf/LM/LM185-2.5.html; ComponentLink3Description: H02A Package Page; ComponentLink3URL: http://www.national.com/packaging/folders/h02a.html
footprint H02A (Can; 2 Leads; Pin Circle Dia. 2.54 mm; Lead Dia. 0.48 mm (max))
pins: 1 V+ (power), 2 V- (power)

## LM185BYH-1.2
designator U?
Micropower Voltage Reference Diode; PartNumber: LM185BYH-1.2; Manufacturer: National Semiconductor; CompType: MiscPower; PackageTopMarking: NSXYTTE# LM185BYH1.2; PowerWise: N; FirstPublished: 4-Dec-2008; DatasheetVersion: Jan-2008; PackageVersion: revF, Apr-2002; PackageReference: H02A; Publisher: Altium Limited; PackageDescription: Metal Can, TO-46, 2 Lead, .100in Dia, P.C.; RoHS: O; PinCount: 2; Code_JEDEC: TO-46; ComponentLink1Description: LM185-1.2 Datasheet; ComponentLink1URL: http://www.national.com/ds/LM/LM185-1.2.pdf; ComponentLink2Description: LM185-1.2 Web Page; ComponentLink2URL: http://www.national.com/pf/LM/LM185-1.2.html; ComponentLink3Description: H02A Package Page; ComponentLink3URL: http://www.national.com/packaging/folders/h02a.html
footprint H02A (Can; 2 Leads; Pin Circle Dia. 2.54 mm; Lead Dia. 0.48 mm (max))
pins: 1 V+ (power), 2 V- (power)

## LM185BYH-2.5
designator U?
Micropower Voltage Reference Diode; PartNumber: LM185BYH-2.5; Manufacturer: National Semiconductor; CompType: MiscPower; PackageTopMarking: NSXYTTE# LM185BYH2.5; PowerWise: N; FirstPublished: 4-Dec-2008; DatasheetVersion: Jan-2008; PackageVersion: revF, Apr-2002; PackageReference: H02A; Publisher: Altium Limited; PackageDescription: Metal Can, TO-46, 2 Lead, .100in Dia, P.C.; RoHS: O; PinCount: 2; Code_JEDEC: TO-46; ComponentLink1Description: LM185-2.5 Datasheet; ComponentLink1URL: http://www.national.com/ds/LM/LM185-2.5.pdf; ComponentLink2Description: LM185-2.5 Web Page; ComponentLink2URL: http://www.national.com/pf/LM/LM185-2.5.html; ComponentLink3Description: H02A Package Page; ComponentLink3URL: http://www.national.com/packaging/folders/h02a.html
footprint H02A (Can; 2 Leads; Pin Circle Dia. 2.54 mm; Lead Dia. 0.48 mm (max))
pins: 1 V+ (power), 2 V- (power)

## LM185BYH/883
designator U?
Adjustable Micropower Voltage Reference; PartNumber: LM185BYH/883; Manufacturer: National Semiconductor; CompType: MiscPower; PackageTopMarking: NSZSSXXYYA LM185BYHQ Q; FirstPublished: 4-Dec-2008; DatasheetVersion: Jan-2008; PackageVersion: revF, Apr-2002; PackageReference: H03H; Publisher: Altium Limited; PackageDescription: Metal Can, TO-46, 3 Lead, .100in Dia, P.C.; RoHS: N; PinCount: 3; Code_JEDEC: TO-46; ComponentLink1Description: LM185-ADJ Datasheet; ComponentLink1URL: http://www.national.com/ds/LM/LM185-ADJ.pdf; ComponentLink2Description: LM185-ADJ Web Page; ComponentLink2URL: http://www.national.com/pf/LM/LM185-ADJ.html; ComponentLink3Description: H03H Package Page; ComponentLink3URL: http://www.national.com/packaging/folders/h03h.html
footprint H03H (Can; 3 Leads; Pin Circle Dia. 2.54 mm; Lead Dia. 0.48 mm (max))
pins: 1 FB (in), 2 +V, 3 -V

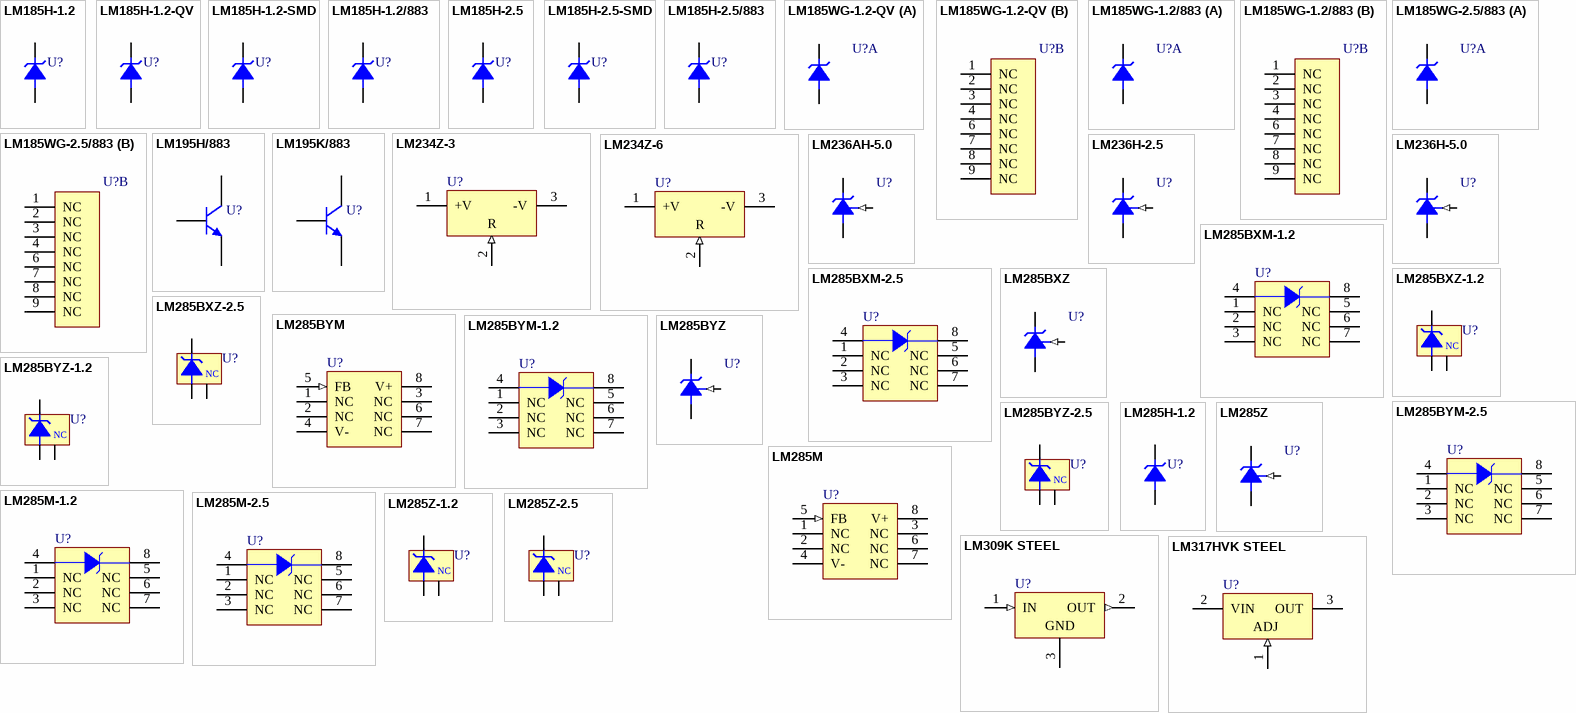
[diagram p1: symbols LM185H-1.2 to LM317HVK STEEL]

## LM185H-1.2
designator U?
Micropower Voltage Reference Diode; PartNumber: LM185H-1.2; Manufacturer: National Semiconductor; CompType: MiscPower; PackageTopMarking: NSXYTTE# LM185H1.2; PowerWise: N; FirstPublished: 4-Dec-2008; DatasheetVersion: Jan-2008; PackageVersion: revF, Apr-2002; PackageReference: H02A; Publisher: Altium Limited; PackageDescription: Metal Can, TO-46, 2 Lead, .100in Dia, P.C.; RoHS: O; PinCount: 2; Code_JEDEC: TO-46; ComponentLink1Description: LM185-1.2 Datasheet; ComponentLink1URL: http://www.national.com/ds/LM/LM185-1.2.pdf; ComponentLink2Description: LM185-1.2 Web Page; ComponentLink2URL: http://www.national.com/pf/LM/LM185-1.2.html; ComponentLink3Description: H02A Package Page; ComponentLink3URL: http://www.national.com/packaging/folders/h02a.html
footprint H02A (Can; 2 Leads; Pin Circle Dia. 2.54 mm; Lead Dia. 0.48 mm (max))
pins: 1 V+ (power), 2 V- (power)

## LM185H-1.2-QV
designator U?
Micropower Voltage Reference Diode; PartNumber: LM185H-1.2-QV; Manufacturer: National Semiconductor; CompType: MiscPower; PackageTopMarking: NSZSSXXYYA 5962-8759401VXA Q; PowerWise: N; FirstPublished: 4-Dec-2008; DatasheetVersion: Jan-2008; PackageVersion: revF, Apr-2002; PackageReference: H02A; Publisher: Altium Limited; PackageDescription: Metal Can, TO-46, 2 Lead, .100in Dia, P.C.; RoHS: N; PinCount: 2; Code_JEDEC: TO-46; ComponentLink1Description: LM185-1.2 Datasheet; ComponentLink1URL: http://www.national.com/ds/LM/LM185-1.2.pdf; ComponentLink2Description: LM185-1.2 Web Page; ComponentLink2URL: http://www.national.com/pf/LM/LM185-1.2.html; ComponentLink3Description: H02A Package Page; ComponentLink3URL: http://www.national.com/packaging/folders/h02a.html
footprint H02A (Can; 2 Leads; Pin Circle Dia. 2.54 mm; Lead Dia. 0.48 mm (max))
pins: 1 V+ (power), 2 V- (power)

## LM185H-1.2-SMD
designator U?
Micropower Voltage Reference Diode; PartNumber: LM185H-1.2-SMD; Manufacturer: National Semiconductor; CompType: MiscPower; PackageTopMarking: NSZSSXXYYA 8759401XA Q; PowerWise: N; FirstPublished: 4-Dec-2008; DatasheetVersion: Jan-2008; PackageVersion: revF, Apr-2002; PackageReference: H02A; Publisher: Altium Limited; PackageDescription: Metal Can, TO-46, 2 Lead, .100in Dia, P.C.; RoHS: N; PinCount: 2; Code_JEDEC: TO-46; ComponentLink1Description: LM185-1.2 Datasheet; ComponentLink1URL: http://www.national.com/ds/LM/LM185-1.2.pdf; ComponentLink2Description: LM185-1.2 Web Page; ComponentLink2URL: http://www.national.com/pf/LM/LM185-1.2.html; ComponentLink3Description: H02A Package Page; ComponentLink3URL: http://www.national.com/packaging/folders/h02a.html
footprint H02A (Can; 2 Leads; Pin Circle Dia. 2.54 mm; Lead Dia. 0.48 mm (max))
pins: 1 V+ (power), 2 V- (power)

## LM185H-1.2/883
designator U?
Micropower Voltage Reference Diode; PartNumber: LM185H-1.2/883; Manufacturer: National Semiconductor; CompType: MiscPower; PackageTopMarking: NSZSSXXYYA LM185H-1.2 Q; PowerWise: N; FirstPublished: 4-Dec-2008; DatasheetVersion: Jan-2008; PackageVersion: revF, Apr-2002; PackageReference: H02A; Publisher: Altium Limited; PackageDescription: Metal Can, TO-46, 2 Lead, .100in Dia, P.C.; RoHS: N; PinCount: 2; Code_JEDEC: TO-46; ComponentLink1Description: LM185-1.2 Datasheet; ComponentLink1URL: http://www.national.com/ds/LM/LM185-1.2.pdf; ComponentLink2Description: LM185-1.2 Web Page; ComponentLink2URL: http://www.national.com/pf/LM/LM185-1.2.html; ComponentLink3Description: H02A Package Page; ComponentLink3URL: http://www.national.com/packaging/folders/h02a.html
footprint H02A (Can; 2 Leads; Pin Circle Dia. 2.54 mm; Lead Dia. 0.48 mm (max))
pins: 1 V+ (power), 2 V- (power)

## LM185H-2.5
designator U?
Adjustable Micropower Voltage Reference; PartNumber: LM185H-2.5; Manufacturer: National Semiconductor; CompType: MiscPower; PackageTopMarking: NSXYTTE# LM185H2.5; PowerWise: N; FirstPublished: 4-Dec-2008; DatasheetVersion: Jan-2008; PackageVersion: revF, Apr-2002; PackageReference: H02A; Publisher: Altium Limited; PackageDescription: Metal Can, TO-46, 2 Lead, .100in Dia, P.C.; RoHS: O; PinCount: 2; DigiKeyPartNumber: LM185H-2.5-ND; Code_JEDEC: TO-46; ComponentLink1Description: LM185-2.5 Datasheet; ComponentLink1URL: http://www.national.com/ds/LM/LM185-2.5.pdf; ComponentLink2Description: LM185-ADJ Web Page; ComponentLink2URL: http://www.national.com/pf/LM/LM185-ADJ.html; ComponentLink3Description: H02A Package Page; ComponentLink3URL: http://www.national.com/packaging/folders/h02a.html
footprint H02A (Can; 2 Leads; Pin Circle Dia. 2.54 mm; Lead Dia. 0.48 mm (max))
pins: 1 V+ (power), 2 V- (power)

## LM185H-2.5-SMD
designator U?
Micropower Voltage Reference Diode; PartNumber: LM185H-2.5-SMD; Manufacturer: National Semiconductor; CompType: MiscPower; PackageTopMarking: NSZSSXXYYA 8759402XA Q; PowerWise: N; FirstPublished: 4-Dec-2008; DatasheetVersion: Jan-2008; PackageVersion: revF, Apr-2002; PackageReference: H02A; Publisher: Altium Limited; PackageDescription: Metal Can, TO-46, 2 Lead, .100in Dia, P.C.; RoHS: N; PinCount: 2; Code_JEDEC: TO-46; ComponentLink1Description: LM185-2.5 Datasheet; ComponentLink1URL: http://www.national.com/ds/LM/LM185-2.5.pdf; ComponentLink2Description: LM185-2.5 Web Page; ComponentLink2URL: http://www.national.com/pf/LM/LM185-2.5.html; ComponentLink3Description: H02A Package Page; ComponentLink3URL: http://www.national.com/packaging/folders/h02a.html
footprint H02A (Can; 2 Leads; Pin Circle Dia. 2.54 mm; Lead Dia. 0.48 mm (max))
pins: 1 V+ (power), 2 V- (power)

## LM185H-2.5/883
designator U?
Micropower Voltage Reference Diode; PartNumber: LM185H-2.5/883; Manufacturer: National Semiconductor; CompType: MiscPower; PackageTopMarking: NSZSSXXYYA LM185H-2.5 Q; PowerWise: N; FirstPublished: 4-Dec-2008; DatasheetVersion: Jan-2008; PackageVersion: revF, Apr-2002; PackageReference: H02A; Publisher: Altium Limited; PackageDescription: Metal Can, TO-46, 2 Lead, .100in Dia, P.C.; RoHS: N; PinCount: 2; Code_JEDEC: TO-46; ComponentLink1Description: LM185-2.5 Datasheet; ComponentLink1URL: http://www.national.com/ds/LM/LM185-2.5.pdf; ComponentLink2Description: LM185-2.5 Web Page; ComponentLink2URL: http://www.national.com/pf/LM/LM185-2.5.html; ComponentLink3Description: H02A Package Page; ComponentLink3URL: http://www.national.com/packaging/folders/h02a.html
footprint H02A (Can; 2 Leads; Pin Circle Dia. 2.54 mm; Lead Dia. 0.48 mm (max))
pins: 1 V+ (power), 2 V- (power)

## LM185WG-1.2-QV
designator U?
Micropower Voltage Reference Diode; PartNumber: LM185WG-1.2-QV; Manufacturer: National Semiconductor; CompType: MiscPower; PackageTopMarking: NS*ZSSXXYYA*8759401VY*A LM185W*G-1.2-QV; PowerWise: N; MilaeroCode: DXX; FirstPublished: 29-May-2009; DatasheetVersion: Oct-2005; PackageVersion: revF, Oct-2008; PackageReference: WG10A; Publisher: Altium Limited; PackageDescription: Cerpack, .270 x .241 x .070in, 10 Lead, .050in Pitch, Gull Wing; RoHS: N; PinCount: 10; ComponentLink1Description: LM185-1.2 Datasheet; ComponentLink1URL: http://www.national.com/ds/LM/LM185-1.2QML.pdf; ComponentLink2Description: LM185-1.2 Web Page; ComponentLink2URL: http://www.national.com/pf/LM/LM185-1.2.html; ComponentLink3Description: WG10A Package Page; ComponentLink3URL: http://www.national.com/packaging/folders/wg10a.html
footprint WG10A_N (CERPACK, 10-Leads, Body 6.9x6.3mm, Pitch 1.27mm, IPC Medium Density)
footprint WG10A_L (CERPACK, 10-Leads, Body 6.9x6.3mm, Pitch 1.27mm, IPC High Density)
footprint WG10A_M (CERPACK, 10-Leads, Body 6.9x6.3mm, Pitch 1.27mm, IPC Low Density)
part A pins: 5 -V "Ground", 10 +V "+VREF"
part B pins: 1 NC, 2 NC, 3 NC, 4 NC, 6 NC, 7 NC, 8 NC, 9 NC

## LM185WG-1.2/883
designator U?
Micropower Voltage Reference Diode; PartNumber: LM185WG-1.2/883; Manufacturer: National Semiconductor; CompType: MiscPower; PackageTopMarking: NS*ZSSXXYYA*8759401YA*LM185WG-*1.2/883 Q; PowerWise: N; MilaeroCode: B88; FirstPublished: 29-May-2009; DatasheetVersion: Oct-2005; PackageVersion: revF, Oct-2008; PackageReference: WG10A; Publisher: Altium Limited; PackageDescription: Cerpack, .270 x .241 x .070in, 10 Lead, .050in Pitch, Gull Wing; RoHS: N; PinCount: 10; ComponentLink1Description: LM185-1.2 Datasheet; ComponentLink1URL: http://www.national.com/ds/LM/LM185-1.2QML.pdf; ComponentLink2Description: LM185-1.2 Web Page; ComponentLink2URL: http://www.national.com/pf/LM/LM185-1.2.html; ComponentLink3Description: WG10A Package Page; ComponentLink3URL: http://www.national.com/packaging/folders/wg10a.html
footprint WG10A_N (CERPACK, 10-Leads, Body 6.9x6.3mm, Pitch 1.27mm, IPC Medium Density)
footprint WG10A_L (CERPACK, 10-Leads, Body 6.9x6.3mm, Pitch 1.27mm, IPC High Density)
footprint WG10A_M (CERPACK, 10-Leads, Body 6.9x6.3mm, Pitch 1.27mm, IPC Low Density)
part A pins: 5 -V "Ground", 10 +V "+VREF"
part B pins: 1 NC, 2 NC, 3 NC, 4 NC, 6 NC, 7 NC, 8 NC, 9 NC

## LM185WG-2.5/883
designator U?
Micropower Voltage Reference Diode; PartNumber: LM185WG-2.5/883; Manufacturer: National Semiconductor; CompType: MiscPower; PackageTopMarking: NS*ZSSXXYYA*8759402YA*LM185WG-*2.5/883 Q; PowerWise: N; MilaeroCode: B88; FirstPublished: 29-May-2009; DatasheetVersion: Nov-2005; PackageVersion: revF, Oct-2008; PackageReference: WG10A; Publisher: Altium Limited; PackageDescription: Cerpack, .270 x .241 x .070in, 10 Lead, .050in Pitch, Gull Wing; RoHS: N; PinCount: 10; ComponentLink1Description: LM185-2.5 Datasheet; ComponentLink1URL: http://www.national.com/ds/LM/LM185-2.5QML.pdf; ComponentLink2Description: LM185-2.5 Web Page; ComponentLink2URL: http://www.national.com/pf/LM/LM185-2.5.html; ComponentLink3Description: WG10A Package Page; ComponentLink3URL: http://www.national.com/packaging/folders/wg10a.html
footprint WG10A_N (CERPACK, 10-Leads, Body 6.9x6.3mm, Pitch 1.27mm, IPC Medium Density)
footprint WG10A_L (CERPACK, 10-Leads, Body 6.9x6.3mm, Pitch 1.27mm, IPC High Density)
footprint WG10A_M (CERPACK, 10-Leads, Body 6.9x6.3mm, Pitch 1.27mm, IPC Low Density)
part A pins: 5 -V "Ground", 10 +V "+VREF"
part B pins: 1 NC, 2 NC, 3 NC, 4 NC, 6 NC, 7 NC, 8 NC, 9 NC

## LM195H/883
designator U?
Ultra Reliable Power Transistor; PartNumber: LM195H/883; Manufacturer: National Semiconductor; CompType: MiscPower; PackageTopMarking: NS ZSSXXYYA LM195H/883 Q*5962-8777801XA; PowerWise: N; FirstPublished: 4-Dec-2008; DatasheetVersion: Jul-2000; PackageVersion: revD, Feb-1995; PackageReference: H03A; Publisher: Altium Limited; PackageDescription: Metal Can, TO-39, 3 Lead, .200in Dia, P.C.; RoHS: N; PinCount: 3; Code_JEDEC: TO-39; ComponentLink1Description: LM195 Datasheet; ComponentLink1URL: http://www.national.com/ds/LM/LM195.pdf; ComponentLink2Description: LM195 Web Page; ComponentLink2URL: http://www.national.com/pf/LM/LM195.html; ComponentLink3Description: H03A Package Page; ComponentLink3URL: http://www.national.com/packaging/folders/h03a.html
footprint H03A (Can; 3 Leads; Pin Circle Dia. 5.08 mm; Lead Dia. 0.48 mm (max))
pins: 1 E, 2 B, 3 C